# Altium schematic symbol library PBL - Mechanical.SCHLIB: 21 symbols
Pins are listed as number, name and electrical type; pins without a type are passive.

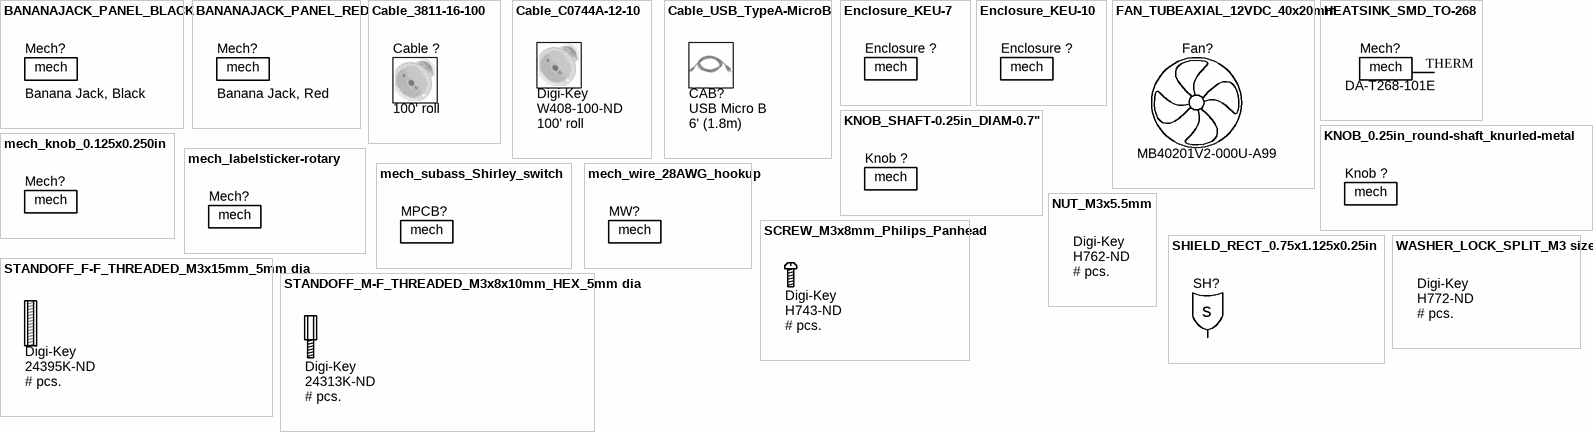
[diagram p0: symbols BANANAJACK_PANEL_BLACK to WASHER_LOCK_SPLIT_M3 size]

## BANANAJACK_PANEL_BLACK
designator Mech?, comment Banana Jack, Black  (mechanical)
Banana jack panel mount black; Manufacturer 1: Emerson Network Power Connectivity Solutions; Manufacturer Part Number 1: 108-0903-001; SCDType: undef; Supplier 1: Digi-Key; Supplier Part Number 1: J152-ND
text: mech

## BANANAJACK_PANEL_RED
designator Mech?, comment Banana Jack, Red  (mechanical)
Banana jack panel mount red; Manufacturer 1: Emerson Network Power Connectivity Solutions; Manufacturer Part Number 1: 108-0902-001; SCDType: undef; Supplier 1: Digi-Key; Supplier Part Number 1: J151-ND
text: mech

## Cable_3811-16-100
designator Cable ?, comment 100' roll  (mechanical)
Ribbon cable 26 AWG 16-conductor 1.27mm pitch; Manufacturer 1: 3M; QtyOverride: .01; Value: 1' section; Number of Conductors: 16; Voltge Rating: 300 V; Stranding: 7 x 34 AWG; SCDType: undef; Supplier 1: Mouser; Supplier Part Number 1: 517-3811/16; Manufacturer Part Number 1: 3811/16-100; Parameter Name: Ribbon Cable; Color: Multicolor

## Cable_C0744A-12-10
designator *, comment 100' roll  Supplier 1: Digi-Key  Supplier Part Number 1: W408-100-ND
Cable, SHIELDED 24AWG UL2464 8 COND; Manufacturer 1: General Cable/Carol Brand; Manufacturer Part Number 1: C0744A-12-10; Cable Type: Multi-Conductor; Conductor Insulation: Poly-Vinyl Chloride (PVC); Conductor Material: Copper, Tinned; Conductor Strand: 7 Strands / 32 AWG; Jacket (Insulation) Diameter: 0.215" (5.46mm); Jacket (Insulation) Thickness: 0.032" (0.81mm); Number of Conductors: 8; Shield Coverage: 100%; Shield Material: Flexfoil®; Shield Type: Foil; Usage: Computer; Voltage: 300V; QtyOverride: .12; Value: 5' section; SCDType: undef; Category: Cables Wires; Color: Gray; Features: Drain Wire; Jacket (Insulation) Material: Poly-Vinyl Chloride (PVC); Length: 100' (30.5m); Operating Temperature: -20°C ~ 80°C; Wire Gauge: 24 AWG; ComponentLink1URL: http://www.generalcable.com/NR/rdonlyres/E79F504B-B22F-45DB-9843-849435C5B1BE/0/Pg39_40MltiCondfoilShield.pdf; ComponentLink1Description: http://www.generalcable.com/NR/rdonlyres/E79F504B-B22F-45DB-9843-849435C5B1BE/0/Pg39_40MltiCondfoilShield.pdf; Package / Case: 100' roll
footprint ClarisonicLogo (Clarisonic Logo 0.360" height)

## Cable_USB_TypeA-MicroB
designator CAB?, comment USB Micro B  Length: 6' (1.8m)  (mechanical)
Cable 6ft USB 2.0 A Male to Micro 5pin Male; Manufacturer 1: Monoprice.com; Manufacturer Part Number 1: 4868; Number of Conductors: 5; Value: 6' section; Cable Type: USB Type A to Micro-B; Wire Gauge: 28/28 AWG; SCDType: undef; Color: Black

## Enclosure_KEU-7
designator Enclosure ?  (value not drawn)  (mechanical)
Enclosure with keyboard panel 5.1x7.1x3.0in; Manufacturer 1: PacTec; Manufacturer Part Number 1: 63100-510-000; SCDType: undef; Supplier 1: Mouser; Supplier Part Number 1: 616-63100-510-000
text: mech

## Enclosure_KEU-10
designator Enclosure ?  (value not drawn)  (mechanical)
Enclosure with keyboard panel 8.1x10.1x4.0in; Manufacturer 1: PacTec; Manufacturer Part Number 1: 62291-510-000 KEU-10 Black Kit; SCDType: undef; Supplier 1: Mouser; Supplier Part Number 1: 616-62291-510-000; ComponentLink1URL: http://www.pactecenclosures.com/Plastic-Enclosures/drw_KEU-10.pdf; ComponentLink1Description: http://www.pactecenclosures.com/Plastic-Enclosures/drw_KEU-10.pdf
text: mech

## FAN_TUBEAXIAL_12VDC_40x20mm
designator Fan?, comment Manufacturer Part Number 1: MB40201V2-000U-A99  (hidden comment: tubeaxial fan)  (mechanical)
Fan tubeaxial 40x20mm 7.7 CFM 21 dBA 12 VDC; Manufacturer 1: Sunon Fans; Noise: 21 dB(A); RPM: 6200 RPM; Power Rating: 0.60W; Voltage - Rated: 12VDC; SCDType: undef; Supplier 1: Digi-Key; Supplier Part Number 1: 259-1554-ND; ComponentLink1URL: http://www.sunon.com.tw/products/pdf/DCFAN/MB4020.pdf; ComponentLink1Description: http://www.sunon.com.tw/products/pdf/DCFAN/MB4020.pdf; Size / Dimension: Square - 40mm L x 40mm H x 20mm W; Weight: 0.068 lb (30.84g)

## HEATSINK_SMD_TO-268
designator Mech?, comment Manufacturer Part Number 1: DA-T268-101E  (hidden comment: SMD heat sink)
Heat sink for TO-268 SMD; Manufacturer 1: Ohmite; For Use With/Related Products: Rotary Switches and Encoders; Power Dissipation @ Temperature Rise: 5W @ 35°C; SCDType: undef; Supplier 1: Digi-Key; Supplier Part Number 1: DA-T268-101E-ND; Height Off Base (Height of Fin): 0.400" (10.16mm); Length: 0.500" (12.70mm); Supplier 2: Digi-Key; Supplier Part Number 2: DV-T268-101E-ND; Manufacturer 2: Ohmite; Manufacturer Part Number 2: DV-T268-101E; ComponentLink2URL: http://media.digikey.com/pdf/Data%20Sheets/Ohmite%20PDFs/D_Series.pdf; ComponentLink2Description: http://media.digikey.com/pdf/Data%20Sheets/Ohmite%20PDFs/D_Series.pdf; ComponentLink1URL: http://media.digikey.com/pdf/Data%20Sheets/Ohmite%20PDFs/D_Series.pdf; ComponentLink1Description: http://media.digikey.com/pdf/Data%20Sheets/Ohmite%20PDFs/D_Series.pdf
footprint HEATSINK_TO-268 (SMD heatsink for use with TO-268 / D3-PAK component)
pins: THERM GND
text: mech

## KNOB_0.25in_round-shaft_knurled-metal
designator Knob ?, comment round knurled knob  (value not drawn)  (mechanical)
Knob metal 0.25in diameter clear matte; Manufacturer 1: Kilo International; Manufacturer Part Number 1: OESA-50-3-5; Accessory Type: Knob - Metal; For Use With/Related Products: 1/4" round shaft potentiometers; Knob / Dial Style: Round 12.7mm with 17.4mm skirt; Shaft Diameter: 6.35mm; SCDType: undef; Shaft Type: Round; Knob Material: metal; Color: Clear matte; Supplier 1: Digi-Key; Supplier Part Number 1: 226-3148-ND; ComponentLink1URL: http://media.digikey.com/pdf/Data%20Sheets/Kilo%20International%20PDFs/OES.pdf; ComponentLink1Description: http://media.digikey.com/pdf/Data%20Sheets/Kilo%20International%20PDFs/OES.pdf
text: mech

## KNOB_SHAFT-0.25in_DIAM-0.7"
designator Knob ?, comment round fluted knob  (value not drawn)  (mechanical)
Knob plastic 0.125in diameter black; Manufacturer 1: GRAYHILL; Manufacturer Part Number 1: 11K5014-KCNB; Accessory Type: Knob - Black; For Use With/Related Products: Rotary Switches and Encoders; Shaft Diameter: 6.35; Knob Material: Nylon; Knob Dia - Imperial: 0.7"; Knob Dia - Metric: 17.78; SCDType: undef; ComponentLink1URL: http://www.grayhill.com/web1/pdf/control%20knob%20accessories%20encoder.pdf; ComponentLink1Description: http://www.grayhill.com/web1/pdf/control%20knob%20accessories%20encoder.pdf; Supplier 1: Newark; Supplier Part Number 1: 05C2120; Knob / Dial Style: Round Fluted; Shaft Type: Round; Color: Black
text: mech

## mech_knob_0.125x0.250in
designator Mech?  (value not drawn)  (mechanical)
Knob plastic 0.125in diameter black; Manufacturer 1: Grayhill Inc; Manufacturer Part Number 1: 11K5017-JCNB; Accessory Type: Knob - Black; For Use With/Related Products: Rotary Switches and Encoders; SCDType: undef; Supplier 1: Digi-Key; Supplier Part Number 1: GH7335-ND; ComponentLink1URL: http://www.grayhill.com/web1/pdf/control%20knob%20accessories%20encoder.pdf; ComponentLink1Description: http://www.grayhill.com/web1/pdf/control%20knob%20accessories%20encoder.pdf
text: mech

## mech_labelsticker-rotary
designator Mech?  (value not drawn)  (mechanical)
Label sticker for rotary switch; Manufacturer 1: Grayhill Inc; Manufacturer Part Number 1: 71SS1073-1; Accessory Type: Stop Pin Sticker; For Use With/Related Products: 71AD Series; SCDType: undef; Supplier 1: Digi-Key; Supplier Part Number 1: 71SS1073-1-ND; ComponentLink1URL: http://lgrws01.grayhill.com/web1/images/ProductImages/Rotary_71.pdf; ComponentLink1Description: http://lgrws01.grayhill.com/web1/images/ProductImages/Rotary_71.pdf
text: mech

## mech_subass_Shirley_switch
designator MPCB?  (value not drawn)  (mechanical)
Assy, PCB switch subassembly; SCDType: undef
text: mech

## mech_wire_28AWG_hookup
designator MW?  (value not drawn)  (mechanical)
Wire, 28AWG, insulated; Manufacturer 1: Any; Value: 45mm piece; SCDType: undef; Package / Case: 28AWG insulated
text: mech

## NUT_M3x5.5mm
designator *, comment # pcs.  Supplier 1: Digi-Key  Supplier Part Number 1: H762-ND  (mechanical)
NUT HEX METRIC M 3 ZINC; Manufacturer 1: B&F Fastener Supply; Manufacturer Part Number 1: MHNZ 003; Thread Size: M3; SCDType: undef; RoHS: RoHS non-compliant; Description 1: NUT HEX METRIC M 3 ZINC; Category: Hardware Fasteners Accessories; Stock 1: 9500; Pricing 1: 100=0.0384, 1000=0.03072 (USD); Type: Hex; Thickness: -; Width: 0.217" (5.5mm); Quantity: -; Material: -; Plating: Zinc

## SCREW_M3x8mm_Philips_Panhead
designator *, comment # pcs.  Supplier 1: Digi-Key  Supplier Part Number 1: H743-ND  (mechanical)
SCREW MACHINE METRIC PH M3X8MM; Manufacturer 1: B&F Fastener Supply; Manufacturer Part Number 1: MPMS 003 0008 PH; Screw Head Type: Phillips Panhead; Thread Size: M3; Head Height: 0.090" (2.29mm); Plating: Zinc; SCDType: undef; RoHS: RoHS non-compliant; Description 1: SCREW MACHINE METRIC PH M3X8MM; Category: Hardware Fasteners Accessories; Stock 1: 8200; Pricing 1: 100=0.066, 1000=0.0528 (USD); Type: Machine Screw; Length - Below Head: 0.315" (8.00mm); Material: -; ComponentLink1URL: http://www.fasnetdirect.com/refguide/Machinepancombo.pdf; ComponentLink1Description: http://www.fasnetdirect.com/refguide/Machinepancombo.pdf

## SHIELD_RECT_0.75x1.125x0.25in
designator SH?  (value not drawn)
Fotofab standard RF shield 0.75x1.125x0.25in; SCDType: undef; Supplier 1: Digi-Key; Supplier Part Number 1: 655-1002-ND; Manufacturer 1: Fotofab; Manufacturer Part Number 1: 0.75 X 1.125 X 0.25
footprint SHIELD_RECT_0.75x1.125x0.25in (Fotofab standard RF shield, 1.125"x0.75", 0.25" tall)
pins: SH
text: s

## STANDOFF_F-F_THREADED_M3x15mm_5mm dia
designator *, comment # pcs.  Supplier 1: Digi-Key  Supplier Part Number 1: 24395K-ND  (mechanical)
STANDOFF METRIC HEX M3 THD 15MM; Manufacturer 1: Keystone Electronics; Manufacturer Part Number 1: 24395; Thread/Screw/Hole Size: M3 Thread; Plating: Nickel; Between Board Height: 0.591" (15.0mm); SCDType: undef; RoHS: RoHS Compliant; Description 1: STANDOFF METRIC HEX M3 THD 15MM; Category: Hardware Fasteners Accessories; Stock 1: 2380; Pricing 1: 10=0.79, 100=0.7595, 500=0.4995, 1000=0.3189, 2500=0.2962 (USD); Type: Hex Threaded, Female/Female; Size: 0.197" (5.0mm) Hex; Length - Overall: 0.590" (15.0mm); Material: Brass; Color: Natural; ComponentLink1URL: http://www.keyelco.com/pdfs/M55-prod30.pdf; ComponentLink1Description: http://www.keyelco.com/pdfs/M55-prod30.pdf

## STANDOFF_M-F_THREADED_M3x8x10mm_HEX_5mm dia
designator *, comment # pcs.  Supplier 1: Digi-Key  Supplier Part Number 1: 24313K-ND  (mechanical)
STANDOFF M/F MET 5MM HEX 10MM L; Manufacturer 1: Keystone Electronics; Manufacturer Part Number 1: 24313; Thread/Screw/Hole Size: M3 Thread; Plating: Nickel; Between Board Height: 0.394" (10.0mm); SCDType: undef; RoHS: RoHS Compliant; Description 1: STANDOFF M/F MET 5MM HEX 10MM L; Category: Hardware Fasteners Accessories; Stock 1: 240; Pricing 1: 10=0.969, 100=0.881, 500=0.58, 1000=0.3685, 2500=0.34215 (USD); Type: Hex Threaded, Male/Female; Size: 0.197" (5.0mm) Hex; Length - Overall: 0.709" (18.0mm); Material: Brass; Color: Natural; ComponentLink1URL: http://www.keyelco.com/pdfs/M55p67.pdf; ComponentLink1Description: http://www.keyelco.com/pdfs/M55p67.pdf

## WASHER_LOCK_SPLIT_M3 size
designator *, comment # pcs.  Supplier 1: Digi-Key  Supplier Part Number 1: H772-ND  (mechanical)
WASHER SPLIT LOCK METRIC M 3 ZINC; Manufacturer 1: B&F Fastener Supply; Manufacturer Part Number 1: MLWZ 003; Description 1: WASHER LOCK METRIC M 3 ZINC; Thread/Screw/Hole Size: Metric 3; SCDType: undef; Category: Hardware Fasteners Accessories; Type: Split Lock; Diameter - Inside: 0.122" (3.1mm); Diameter - Outside: 0.217" (5.5mm); Thickness: 0.039" (1.0mm); Plating: Zinc; Material: Steel